# EAGLE library part PIC18*4520 (library pic18fxx20-2)
PIC18*4520 Microchip FLASH Microcontroller with A/D DEVICE FEATURES Feature PIC18*4520 Program Memory (bytes) 32768 Program Memory (instructions) 16384 Interupt Sources 20 I/O Ports Ports A, B, C, D, E Capture/Compare/PWM Modules 1 Enhanced Capture/Compare/PWM Modules 1 Parallel Communications (PSP) Yes 10-bit Analog-to-Digital Module 13 input Channels Package Types 40-pin PDIP 44-pin TQFP 44-pin QFN NOTES: F only after 18, means standard voltage range from 4.2v to 5.5v LF after 18, means extended voltage range from 2.0v to 5.5v -E before / denotes extended temperature range from -40°C to +120°C -I before / denotes industrial temperature range from -40°C to +85°C /PT suffix denotes TQFP package /SO suffix denotes SOIC package /SP suffix denotes Skinny Plastic DIP package /P suffix denotes Plastic DIP package /ML suffix denotes QFN package
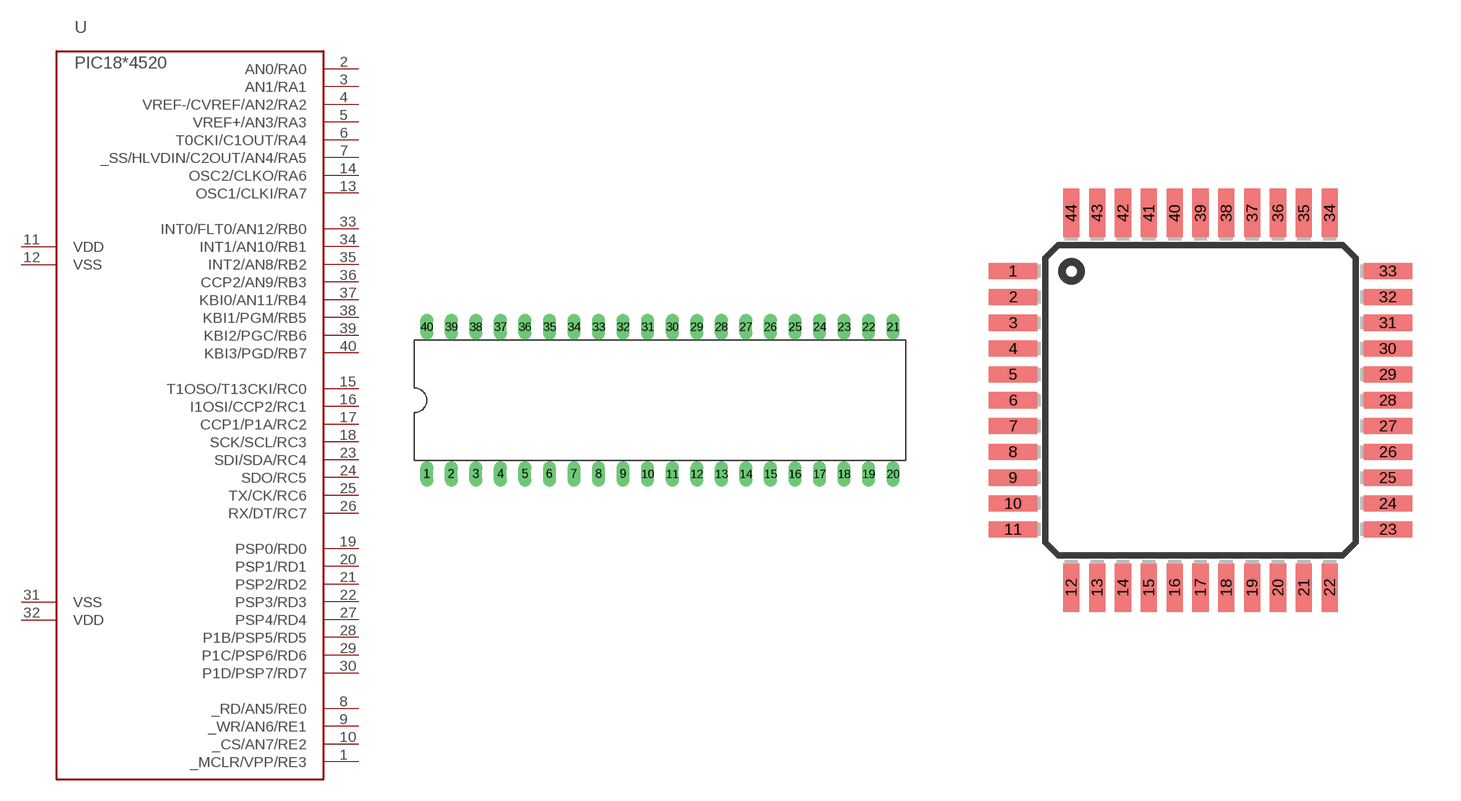
[diagram p3: symbol with the pads of DIL40; footprints DIL40, TQFP44]

Designator prefix -

## PIC18F4520-I/P, PIC18LF4520-I/P  [DIL40]
1  _MCLR/VPP/RE3  in
2  AN0/RA0
3  AN1/RA1
4  VREF-/CVREF/AN2/RA2
5  VREF+/AN3/RA3
6  T0CKI/C1OUT/RA4
7  _SS/HLVDIN/C2OUT/AN4/RA5
8  _RD/AN5/RE0
9  _WR/AN6/RE1
10  _CS/AN7/RE2
11  VDD  pwr
12  VSS  pwr
13  OSC1/CLKI/RA7
14  OSC2/CLKO/RA6
15  T1OSO/T13CKI/RC0
16  I1OSI/CCP2/RC1
17  CCP1/P1A/RC2
18  SCK/SCL/RC3
19  PSP0/RD0
20  PSP1/RD1
21  PSP2/RD2
22  PSP3/RD3
23  SDI/SDA/RC4
24  SDO/RC5
25  TX/CK/RC6
26  RX/DT/RC7
27  PSP4/RD4
28  P1B/PSP5/RD5
29  P1C/PSP6/RD6
30  P1D/PSP7/RD7
31  VSS  pwr
32  VDD  pwr
33  INT0/FLT0/AN12/RB0
34  INT1/AN10/RB1
35  INT2/AN8/RB2
36  CCP2/AN9/RB3
37  KBI0/AN11/RB4
38  KBI1/PGM/RB5
39  KBI2/PGC/RB6
40  KBI3/PGD/RB7

## PIC18F4520-E/P, PIC18LF4520-E/P  [DIL40]
Pads as for DIL40

## PIC18F4520-I/PT, PIC18LF4520-I/PT  [TQFP44]
1  RX/DT/RC7
2  PSP4/RD4
3  P1B/PSP5/RD5
4  P1C/PSP6/RD6
5  P1D/PSP7/RD7
6  VSS  pwr
7  VDD  pwr
8  INT0/FLT0/AN12/RB0
9  INT1/AN10/RB1
10  INT2/AN8/RB2
11  CCP2/AN9/RB3
14  KBI0/AN11/RB4
15  KBI1/PGM/RB5
16  KBI2/PGC/RB6
17  KBI3/PGD/RB7
18  _MCLR/VPP/RE3  in
19  AN0/RA0
20  AN1/RA1
21  VREF-/CVREF/AN2/RA2
22  VREF+/AN3/RA3
23  T0CKI/C1OUT/RA4
24  _SS/HLVDIN/C2OUT/AN4/RA5
25  _RD/AN5/RE0
26  _WR/AN6/RE1
27  _CS/AN7/RE2
28  VDD  pwr
29  VSS  pwr
30  OSC1/CLKI/RA7
31  OSC2/CLKO/RA6
32  T1OSO/T13CKI/RC0
35  I1OSI/CCP2/RC1
36  CCP1/P1A/RC2
37  SCK/SCL/RC3
38  PSP0/RD0
39  PSP1/RD1
40  PSP2/RD2
41  PSP3/RD3
42  SDI/SDA/RC4
43  SDO/RC5
44  TX/CK/RC6

## PIC18F4520-E/PT, PIC18LF4520-E/PT  [TQFP44]
Pads as for TQFP44

## Footprint DIL40 (pad centres in mm)
Dual In Line package type P
drill 0.813 long: 1 -24.13,-7.62; 2 -21.59,-7.62; 3 -19.05,-7.62; 4 -16.51,-7.62; 5 -13.97,-7.62; 6 -11.43,-7.62; 7 -8.89,-7.62; 8 -6.35,-7.62; 9 -3.81,-7.62; 10 -1.27,-7.62; 11 1.27,-7.62; 12 3.81,-7.62; 13 6.35,-7.62; 14 8.89,-7.62; 15 11.43,-7.62; 16 13.97,-7.62; 17 16.51,-7.62; 18 19.05,-7.62; 19 21.59,-7.62; 20 24.13,-7.62; 21 24.13,7.62; 22 21.59,7.62; 23 19.05,7.62; 24 16.51,7.62; 25 13.97,7.62; 26 11.43,7.62; 27 8.89,7.62; 28 6.35,7.62; 29 3.81,7.62; 30 1.27,7.62; 31 -1.27,7.62; 32 -3.81,7.62; 33 -6.35,7.62; 34 -8.89,7.62; 35 -11.43,7.62; 36 -13.97,7.62; 37 -16.51,7.62; 38 -19.05,7.62; 39 -21.59,7.62; 40 -24.13,7.62

## Footprint TQFP44 (pad centres in mm)
Thin Quad Flat Pack package type TQ
smd 1.5 x 0.5: 1 -5.8,4; 2 -5.8,3.2; 3 -5.8,2.4; 4 -5.8,1.6; 5 -5.8,0.8; 6 -5.8,0; 7 -5.8,-0.8; 8 -5.8,-1.6; 9 -5.8,-2.4; 10 -5.8,-3.2; 11 -5.8,-4; 23 5.8,-4; 24 5.8,-3.2; 25 5.8,-2.4; 26 5.8,-1.6; 27 5.8,-0.8; 28 5.8,0; 29 5.8,0.8; 30 5.8,1.6; 31 5.8,2.4; 32 5.8,3.2; 33 5.8,4
smd 0.5 x 1.5: 12 -4,-5.8; 13 -3.2,-5.8; 14 -2.4,-5.8; 15 -1.6,-5.8; 16 -0.8,-5.8; 17 0,-5.8; 18 0.8,-5.8; 19 1.6,-5.8; 20 2.4,-5.8; 21 3.2,-5.8; 22 4,-5.8; 34 4,5.8; 35 3.2,5.8; 36 2.4,5.8; 37 1.6,5.8; 38 0.8,5.8; 39 0,5.8; 40 -0.8,5.8; 41 -1.6,5.8; 42 -2.4,5.8; 43 -3.2,5.8; 44 -4,5.8